# Altium schematic symbol library WR06X152 JTL 1.5K Ohm 0603.SchLib: 1 symbol
Pins are listed as number, name and electrical type; pins without a type are passive.

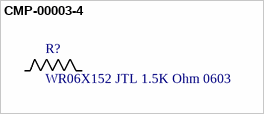
[diagram p0: symbol CMP-00003-4]

## CMP-00003-4
designator R?, comment WR06X152 JTL 1.5K Ohm 0603
WR06X152 JTL 1.5K Ohm 0603 +-5% SMD; ComponentLink1Description: Supplier; ComponentLink1URL: https://www.digikey.com/en/products/detail/walsin-technology-corporation/WR06X152-JTL/13239040; Value: 1.5K Ohm
footprint WR06X152 JTL 1.5K Ohm 0603-Footprint-1
pins: 1, 2